# Altium schematic symbol library Schlib1.SchLib: 390 symbols (part 2 of 5)
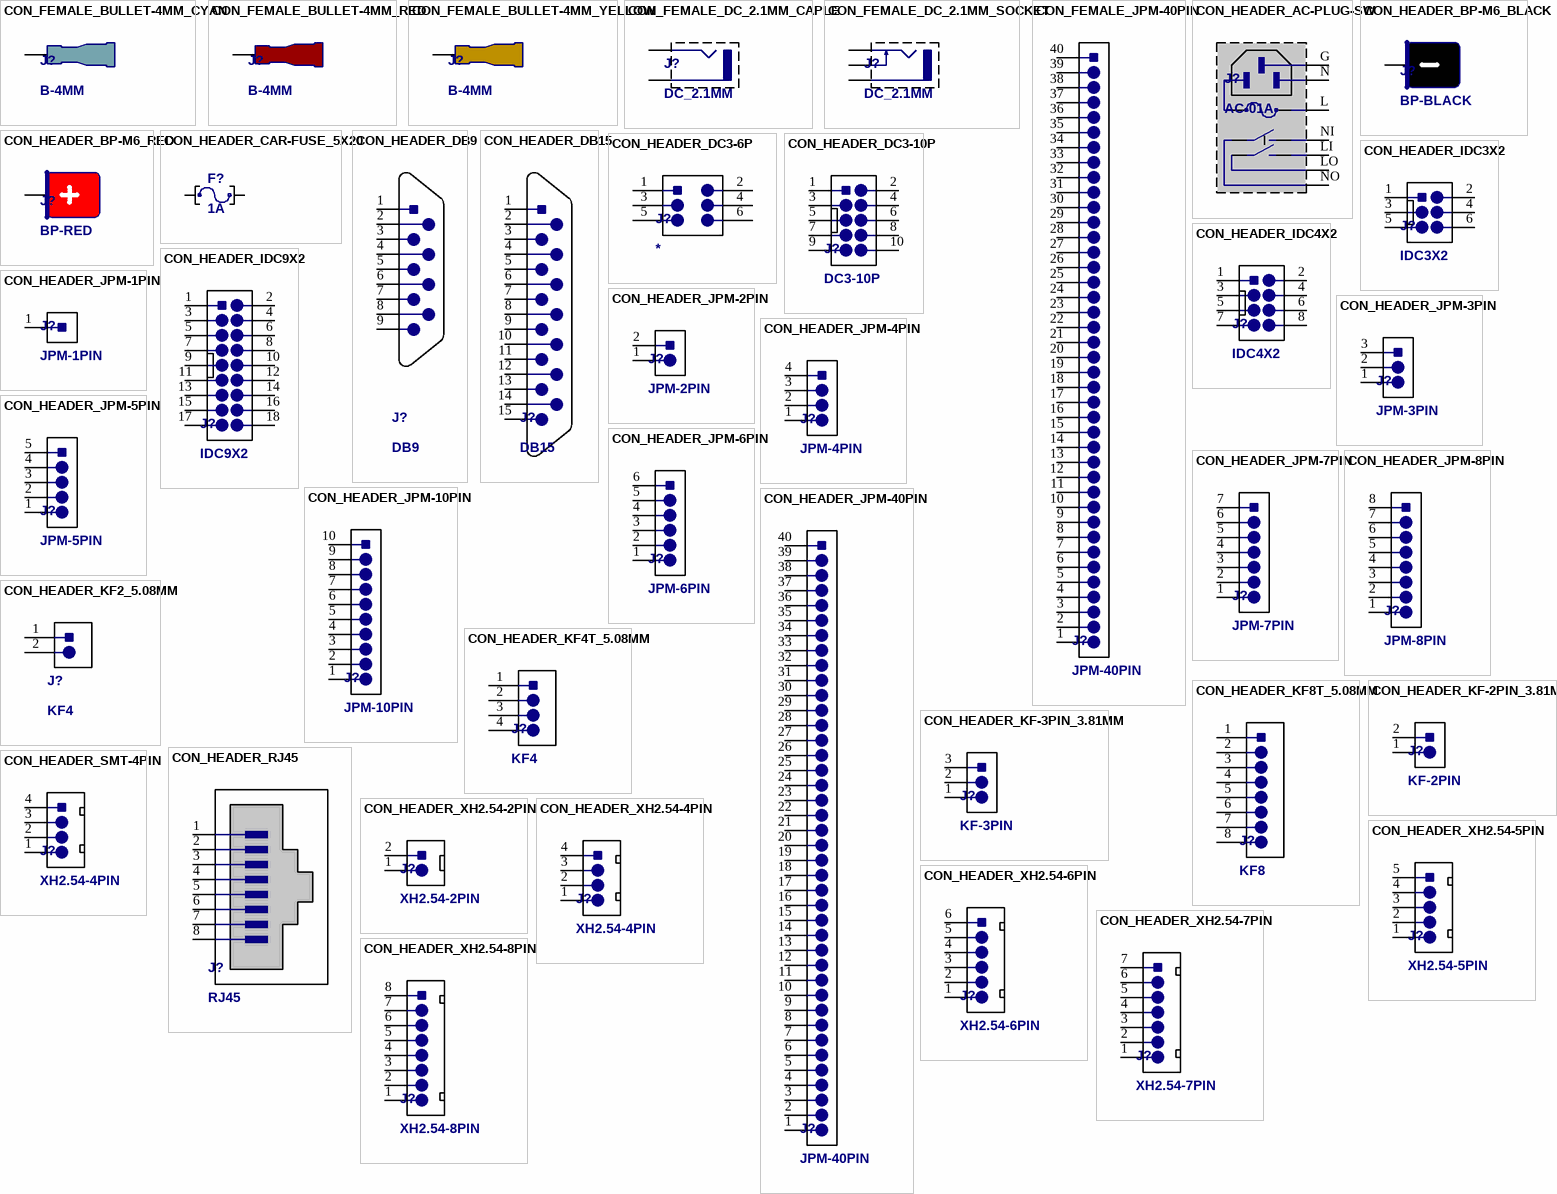
[diagram p11: symbols CON_FEMALE_BULLET-4MM_CYAN to CON_HEADER_XH2.54-8PIN]

## CON_HEADER_CAR-FUSE_5X20
designator F?, comment 1A
CAR-FUSE_5X20; Container: Connector_Fuse_Box; Label: Fuse; Package: TH; Stock: 11; Manufacturer: https://shopee.vn/(G%C3%B3i-20-c%C3%A1i)-%C4%90%E1%BA%BF-c%E1%BA%A7u-ch%C3%AC-5x20mm-(ch%C3%A2n-s%E1%BA%AFt)-l%E1%BA%AFp-PCB-i.135484275.9003542344; Temperature Range: -25 to +85 degC; Price: 0.018
footprint Fuse-Dip1
pins: 1, 2

## CON_HEADER_DB9
designator J?, comment DB9
DE-9 connector Male,  (COM PORT); Container: Bus_Wire_Box; Price: 0.35; Package: TH; Stock: 0; Label: DB9; Manufacturer: https://shopee.vn/%C4%91%C3%A2%CC%80u-com-rs232-9-ch%C3%A2n-%C4%91%E1%BA%A7u-%C4%91%C6%B0%CC%A3c-v%C3%A0-%C4%91%E1%BA%A7u-ca%CC%81i-kh%C3%B4ng-co%CC%81-d%C3%A2y-ke%CC%80m-i.59506575.11391940071; Temperature Range: -25 to +85 degC
pins: 1, 2, 3, 4, 5, 6, 7, 8, 9

## CON_HEADER_DB15
designator J?, comment DB15
High Density DB15 Male VGA Solder Connector; Container: Bus_Wire_Box; Price: 0.28; Package: TH; Stock: 18; Label: DB15; Manufacturer: https://shopee.vn/-2-C%C3%81I-(F29)-DB15-C%C3%A1i-Th%E1%BA%B3ng-(3-h%C3%A0ng-ch%C3%A2n)-c%E1%BB%95ng-VGA-(H%C3%A0n-D%C3%A2y)-i.29971197.4133186476?sp_atk=0d3fd8d2-aa46-4b16-8839-f1036c0a33bb&xptdk=0d3fd8d2-aa46-4b16-8839-f1036c0a33bb; Temperature Range: -25 to +85 degC; ComponentLink1Description: Datasheet; ComponentLink1URL: E:\NEW_DATA\ELECTRONIC_DOCUMENT\DATASHEET\DB15.jpg
pins: 1, 2, 3, 4, 5, 6, 7, 8, 9, 10, 11, 12, 13, 14, 15

## CON_HEADER_DC3-6P
designator J?
Male Box Header WR-BHD, THT, Vertical, pitch 2.54 mm, 6 pins; Container: Bus_Wire_Box; Label: DC3-6P; Price: 0.074; Package: TH; Stock: 0; Manufacturer: https://shopee.vn/Set-10-%C4%91%E1%BA%A7u-n%E1%BB%91i-th%E1%BA%B3ng-DC3-6P-8P-10P-14P-16P-20P-Pin-10PL-14PL-16PL-20PL-2.54mm20210822-i.81431289.21425369779?sp_atk=541d8f43-0182-45c4-8bdd-5b0f02eff494&xptdk=541d8f43-0182-45c4-8bdd-5b0f02eff494; Temperature Range: -25 to +85 degC; ComponentLink1Description: Datasheet; ComponentLink1URL: E:\NEW_DATA\ELECTRONIC_DOCUMENT\DATASHEET\DC3-10P.jpg
footprint IDC6
pins: 1, 2, 3, 4, 5, 6

## CON_HEADER_DC3-10P
designator J?, comment DC3-10P
Male Box Header WR-BHD, THT, Vertical, pitch 2.54 mm, 10 pins; Container: Bus_Wire_Box; Price: 0.07; Package: TH; Stock: 8; Label: DC3-10P; Manufacturer: https://shopee.vn/Set-10-%C4%90%E1%BA%A7u-N%E1%BB%91i-Th%E1%BA%B3ng-2.54Mm-Pitch-DC3-L%E1%BB%97-Xuy%C3%AAn-Qua-6-8-10-12-14-16-20-26-30-34-40-50-Pin-PCB-IDC-i.778834786.20557385821; Temperature Range: -25 to +85 degC; ComponentLink1Description: Datasheet; ComponentLink1URL: E:\NEW_DATA\ELECTRONIC_DOCUMENT\DATASHEET\DC3-10P.jpg
footprint IDC10
pins: 1, 2, 3, 4, 5, 6, 7, 8, 9, 10

## CON_HEADER_IDC3X2
designator J?, comment IDC3X2
Male Box Header WR-BHD, THT, Vertical, pitch 2.54 mm, 10 pins; Container: Bus_Wire_Box; Label: IDC; Price: 0.038; Package: TH; Stock: 0; Manufacturer: https://item.taobao.com/item.htm?spm=a1z10.3-c-s.w4002-22568747145.12.3ea73c70Ca7tQh&id=527402437478; Temperature Range: -25 to +85 degC; ComponentLink1Description: Datasheet; ComponentLink1URL: E:\NEW_DATA\ELECTRONIC_DOCUMENT\DATASHEET\DC3-10P.jpg
footprint IDC3X2
pins: 1, 2, 3, 4, 5, 6

## CON_HEADER_IDC4X2
designator J?, comment IDC4X2
Male Box Header WR-BHD, THT, Vertical, pitch 2.54 mm, 10 pins; Container: Bus_Wire_Box; Label: IDC; Price: 0.038; Package: TH; Stock: 0; Manufacturer: https://item.taobao.com/item.htm?spm=a1z10.3-c-s.w4002-22568747145.12.3ea73c70Ca7tQh&id=527402437478; Temperature Range: -25 to +85 degC; ComponentLink1Description: Datasheet; ComponentLink1URL: E:\NEW_DATA\ELECTRONIC_DOCUMENT\DATASHEET\DC3-10P.jpg
footprint IDC4X2
pins: 1, 2, 3, 4, 5, 6, 7, 8

## CON_HEADER_IDC9X2
designator J?, comment IDC9X2
Male Box Header WR-BHD, THT, Vertical, pitch 2.54 mm, 10 pins; Container: Bus_Wire_Box; Label: IDC; Price: 0.074; Package: TH; Stock: 0; Manufacturer: https://item.taobao.com/item.htm?spm=a1z10.3-c-s.w4002-22568747145.12.3ea73c70Ca7tQh&id=527402437478; Temperature Range: -25 to +85 degC; ComponentLink1Description: Datasheet; ComponentLink1URL: E:\NEW_DATA\ELECTRONIC_DOCUMENT\DATASHEET\DC3-10P.jpg
footprint IDC9X2
pins: 1, 2, 3, 4, 5, 6, 7, 8, 9, 10, 11, 12, 13, 14, 15, 16, 17, 18

## CON_HEADER_JPM-1PIN
designator J?, comment JPM-1PIN
Straight Pin Header, / 2.54mm, Single row.; Container: Bus_Wire_Box; Label: JPM-40P; Price: 0.002; Package: TH; Stock: 0; Manufacturer: https://shopee.vn/H%C3%A0ng-R%C3%A0o-%C4%90%E1%BB%B1c-%C4%90%C6%A1n-Ch%C3%A2n-Th%E1%BA%B3ng-40-Ch%C3%A2n-(Header-2.54-40Pin)-i.106323333.2772909361?sp_atk=56e76b2a-d9b4-4869-a18c-e19f4912a2ea&xptdk=56e76b2a-d9b4-4869-a18c-e19f4912a2ea; Temperature Range: -25 to +85 degC; ComponentLink1Description: Datasheet; ComponentLink1URL: E:\NEW_DATA\ELECTRONIC_DOCUMENT\DATASHEET\35470602.pdf
footprint JP1-D1T (1pins, 1 row, straight, gold plating)
pins: 1

## CON_HEADER_JPM-2PIN
designator J?, comment JPM-2PIN
Straight Pin Header, / 2.54mm, Single row.; Container: Bus_Wire_Box; Label: JPM-40P; Price: 0.004; Package: TH; Stock: 0; Manufacturer: https://shopee.vn/H%C3%A0ng-R%C3%A0o-%C4%90%E1%BB%B1c-%C4%90%C6%A1n-Ch%C3%A2n-Th%E1%BA%B3ng-40-Ch%C3%A2n-(Header-2.54-40Pin)-i.106323333.2772909361?sp_atk=56e76b2a-d9b4-4869-a18c-e19f4912a2ea&xptdk=56e76b2a-d9b4-4869-a18c-e19f4912a2ea; Temperature Range: -25 to +85 degC; ComponentLink1Description: Datasheet; ComponentLink1URL: E:\NEW_DATA\ELECTRONIC_DOCUMENT\DATASHEET\35470602.pdf
footprint JP2-D1T (2 pins, 1 row, straight, gold plating)
pins: 1, 2

## CON_HEADER_JPM-3PIN
designator J?, comment JPM-3PIN
Straight Pin Header, / 2.54mm, Single row.; Container: Bus_Wire_Box; Label: JPM-40P; Price: 0.006; Package: TH; Stock: 0; Manufacturer: https://shopee.vn/H%C3%A0ng-R%C3%A0o-%C4%90%E1%BB%B1c-%C4%90%C6%A1n-Ch%C3%A2n-Th%E1%BA%B3ng-40-Ch%C3%A2n-(Header-2.54-40Pin)-i.106323333.2772909361?sp_atk=56e76b2a-d9b4-4869-a18c-e19f4912a2ea&xptdk=56e76b2a-d9b4-4869-a18c-e19f4912a2ea; Temperature Range: -25 to +85 degC; ComponentLink1Description: Datasheet; ComponentLink1URL: E:\NEW_DATA\ELECTRONIC_DOCUMENT\DATASHEET\35470602.pdf
footprint JP3-D1T (3 pins, 1 row, straight, gold plating)
footprint JP3-CLOSED
pins: 1, 2, 3

## CON_HEADER_JPM-4PIN
designator J?, comment JPM-4PIN
Straight Pin Header, / 2.54mm, Single row.; Container: Bus_Wire_Box; Label: JPM-40P; Price: 0.007; Package: TH; Stock: 0; Manufacturer: https://shopee.vn/H%C3%A0ng-R%C3%A0o-%C4%90%E1%BB%B1c-%C4%90%C6%A1n-Ch%C3%A2n-Th%E1%BA%B3ng-40-Ch%C3%A2n-(Header-2.54-40Pin)-i.106323333.2772909361?sp_atk=56e76b2a-d9b4-4869-a18c-e19f4912a2ea&xptdk=56e76b2a-d9b4-4869-a18c-e19f4912a2ea; Temperature Range: -25 to +85 degC; ComponentLink1Description: Datasheet; ComponentLink1URL: E:\NEW_DATA\ELECTRONIC_DOCUMENT\DATASHEET\35470602.pdf
footprint JP4-D1T (4 pins, 1 row, straight, gold plating)
pins: 1, 2, 3, 4

## CON_HEADER_JPM-5PIN
designator J?, comment JPM-5PIN
Straight Pin Header, / 2.54mm, Single row.; Container: Bus_Wire_Box; Label: JPM-40P; Price: 0.009; Package: TH; Stock: 0; Manufacturer: https://shopee.vn/H%C3%A0ng-R%C3%A0o-%C4%90%E1%BB%B1c-%C4%90%C6%A1n-Ch%C3%A2n-Th%E1%BA%B3ng-40-Ch%C3%A2n-(Header-2.54-40Pin)-i.106323333.2772909361?sp_atk=56e76b2a-d9b4-4869-a18c-e19f4912a2ea&xptdk=56e76b2a-d9b4-4869-a18c-e19f4912a2ea; Temperature Range: -25 to +85 degC; ComponentLink1Description: Datasheet; ComponentLink1URL: E:\NEW_DATA\ELECTRONIC_DOCUMENT\DATASHEET\35470602.pdf
footprint JP5-D1T (5 pins, 1 row, straight, gold plating)
pins: 1, 2, 3, 4, 5

## CON_HEADER_JPM-6PIN
designator J?, comment JPM-6PIN
Straight Pin Header, / 2.54mm, Single row.; Container: Bus_Wire_Box; Label: JPM-40P; Price: 0.011; Package: TH; Stock: 0; Manufacturer: https://shopee.vn/H%C3%A0ng-R%C3%A0o-%C4%90%E1%BB%B1c-%C4%90%C6%A1n-Ch%C3%A2n-Th%E1%BA%B3ng-40-Ch%C3%A2n-(Header-2.54-40Pin)-i.106323333.2772909361?sp_atk=56e76b2a-d9b4-4869-a18c-e19f4912a2ea&xptdk=56e76b2a-d9b4-4869-a18c-e19f4912a2ea; Temperature Range: -25 to +85 degC; ComponentLink1Description: Datasheet; ComponentLink1URL: E:\NEW_DATA\ELECTRONIC_DOCUMENT\DATASHEET\35470602.pdf
footprint JP6-D1T (6 pins, 1 row, straight, gold plating)
pins: 1, 2, 3, 4, 5, 6

## CON_HEADER_JPM-7PIN
designator J?, comment JPM-7PIN
Straight Pin Header, / 2.54mm, Single row.; Container: Bus_Wire_Box; Label: JPM-40P; Price: 0.013; Package: TH; Stock: 0; Manufacturer: https://shopee.vn/H%C3%A0ng-R%C3%A0o-%C4%90%E1%BB%B1c-%C4%90%C6%A1n-Ch%C3%A2n-Th%E1%BA%B3ng-40-Ch%C3%A2n-(Header-2.54-40Pin)-i.106323333.2772909361?sp_atk=56e76b2a-d9b4-4869-a18c-e19f4912a2ea&xptdk=56e76b2a-d9b4-4869-a18c-e19f4912a2ea; Temperature Range: -25 to +85 degC; ComponentLink1Description: Datasheet; ComponentLink1URL: E:\NEW_DATA\ELECTRONIC_DOCUMENT\DATASHEET\35470602.pdf
footprint JP7-D1T (7 pins, 1 row, straight, gold plating)
pins: 1, 2, 3, 4, 5, 6, 7

## CON_HEADER_JPM-8PIN
designator J?, comment JPM-8PIN
Straight Pin Header, / 2.54mm, Single row.; Container: Bus_Wire_Box; Label: JPM-40P; Price: 0.014; Package: TH; Stock: 0; Manufacturer: https://shopee.vn/H%C3%A0ng-R%C3%A0o-%C4%90%E1%BB%B1c-%C4%90%C6%A1n-Ch%C3%A2n-Th%E1%BA%B3ng-40-Ch%C3%A2n-(Header-2.54-40Pin)-i.106323333.2772909361?sp_atk=56e76b2a-d9b4-4869-a18c-e19f4912a2ea&xptdk=56e76b2a-d9b4-4869-a18c-e19f4912a2ea; Temperature Range: -25 to +85 degC; ComponentLink1Description: Datasheet; ComponentLink1URL: E:\NEW_DATA\ELECTRONIC_DOCUMENT\DATASHEET\35470602.pdf
footprint JP8-D1T (8 pins, 1 row, straight, gold plating)
pins: 1, 2, 3, 4, 5, 6, 7, 8

## CON_HEADER_JPM-10PIN
designator J?, comment JPM-10PIN
Straight Pin Header, / 2.54mm, Single row.; Container: Bus_Wire_Box; Label: JPM-40P; Price: 0.018; Package: TH; Stock: 0; Manufacturer: https://shopee.vn/H%C3%A0ng-R%C3%A0o-%C4%90%E1%BB%B1c-%C4%90%C6%A1n-Ch%C3%A2n-Th%E1%BA%B3ng-40-Ch%C3%A2n-(Header-2.54-40Pin)-i.106323333.2772909361?sp_atk=56e76b2a-d9b4-4869-a18c-e19f4912a2ea&xptdk=56e76b2a-d9b4-4869-a18c-e19f4912a2ea; Temperature Range: -25 to +85 degC; ComponentLink1Description: Datasheet; ComponentLink1URL: E:\NEW_DATA\ELECTRONIC_DOCUMENT\DATASHEET\35470602.pdf
footprint JP10-D1T (10 pins, 1 row, straight, gold plating)
pins: 1, 2, 3, 4, 5, 6, 7, 8, 9, 10

## CON_HEADER_JPM-40PIN
designator J?, comment JPM-40PIN
Straight Pin Header, / 2.54mm, Single row.; Container: Bus_Wire_Box; Price: 0.07; Package: TH; Stock: 6; Label: JPM-40P; Manufacturer: https://shopee.vn/H%C3%A0ng-R%C3%A0o-%C4%90%E1%BB%B1c-%C4%90%C6%A1n-Ch%C3%A2n-Th%E1%BA%B3ng-40-Ch%C3%A2n-(Header-2.54-40Pin)-i.106323333.2772909361?sp_atk=56e76b2a-d9b4-4869-a18c-e19f4912a2ea&xptdk=56e76b2a-d9b4-4869-a18c-e19f4912a2ea; Temperature Range: -25 to +85 degC; ComponentLink1Description: Datasheet; ComponentLink1URL: E:\NEW_DATA\ELECTRONIC_DOCUMENT\DATASHEET\35470602.pdf
footprint JP40-D1T (40 pins, 1 row, straight, gold plating)
pins: 1, 2, 3, 4, 5, 6, 7, 8, 9, 10, 11, 12, 13, 14, 15, 16, 17, 18, 19, 20, 21, 22, 23, 24, 25, 26, 27, 28, 29, 30, 31, 32, 33, 34, 35, 36, 37, 38, 39, 40

## CON_HEADER_KF2_5.08MM
designator J?, comment KF4
Terminal 4P-RA-5.08MM; Container: Connector_Fuse_Box; Label: KF2; Package: TH; Stock: 1; Manufacturer: https://shopee.vn/-HAAPEURY-50Pcs-Set-Universal-2-Pin-5mm-Pitch-Green-PCB-Screw-Terminal-Block-Connector-i.156068414.2657161133; Temperature Range: -25 to +85 degC; Price: 0.048
footprint KF2/5.08
pins: 1, 2

## CON_HEADER_KF4T_5.08MM
designator J?, comment KF4
Terminal 4P-RA-5.08MM; Container: Connector_Fuse_Box; Package: TH; Stock: 0; Label: KF4; Temperature Range: -25 to +85 degC
footprint KF4_5.08
pins: 1, 2, 3, 4

## CON_HEADER_KF8T_5.08MM
designator J?, comment KF8
Terminal 8P-RA-5.08MM; Container: Connector_Fuse_Box; Package: TH; Stock: 0; Label: KF8; Temperature Range: -25 to +85 degC
footprint KF8_5.08
pins: 1, 2, 3, 4, 5, 6, 7, 8

## CON_HEADER_KF-2PIN_3.81MM
designator J?, comment KF-2PIN
300V 8A 2 Bend -40℃~+105℃ 1 3.81mm 1x2P Green Board Edge/Receptacle-Close Push-Pull,P=3.81mm Pluggable System Terminal Block ROHS; Container: Bus_Wire_Box; Label: KF-2PIN-3.81MM; Price: 0.12; Package: TH; Stock: 0; Manufacturer: https://item.taobao.com/item.htm?spm=a1z10.3-c-s.w4002-23047171155.12.75fe5989s6gvKv&id=607234682664; Temperature Range: -40 to +105 degC
footprint KF2EDGR-3.81-2P
pins: 1, 2

## CON_HEADER_KF-3PIN_3.81MM
designator J?, comment KF-3PIN
300V 8A 3 Bend -40℃~+105℃ 1 3.81mm 1x3P Green Board Edge/Receptacle-Close Push-Pull,P=3.81mm Pluggable System Terminal Block ROHS; Container: Bus_Wire_Box; Label: KF-3PIN-3.81MM; Price: 0.18; Package: TH; Stock: 0; Manufacturer: https://item.taobao.com/item.htm?spm=a1z10.3-c-s.w4002-23047171155.12.75fe5989s6gvKv&id=607234682664; Temperature Range: -40 to +105 degC
footprint KF2EDGR-3.81-3P
pins: 1, 2, 3

## CON_HEADER_RJ45
designator J?, comment RJ45
RJ45 PORT, (LAN PORT); Container: Bus_Wire_Box; Label: DB9; Price: 0.35; Package: TH; Stock: 0; Manufacturer: https://shopee.vn/%C4%91%C3%A2%CC%80u-com-rs232-9-ch%C3%A2n-%C4%91%E1%BA%A7u-%C4%91%C6%B0%CC%A3c-v%C3%A0-%C4%91%E1%BA%A7u-ca%CC%81i-kh%C3%B4ng-co%CC%81-d%C3%A2y-ke%CC%80m-i.59506575.11391940071; Temperature Range: -25 to +85 degC; ComponentLink1Description: Datasheet; ComponentLink1URL: E:\NEW_DATA\ELECTRONIC_DOCUMENT\DATASHEET\2105241836_Shenzhen-Kinghelm-Elec-KH-RJ45-56-8P8C-D_C2828082.pdf
footprint RJ45-56-8P8C
pins: 1, 2, 3, 4, 5, 6, 7, 8

## CON_HEADER_SMT-4PIN
designator J?, comment XH2.54-4PIN
4P-XH2.54MM SMT connector; Price: 0.11; Package: TH; Temperature Range: -25 to +85 degC
footprint 4P-XH2.54MM-SMT
pins: 1, 2, 3, 4

## CON_HEADER_XH2.54-2PIN
designator J?, comment XH2.54-2PIN
2.5mm pitch/Disconnectable Crimp style connectors.; Container: Bus_Wire_Box; Label: XH2.54; Price: 0.009; Package: TH; Stock: 14; Manufacturer: https://shopee.vn/%C4%90%E1%BA%A7u-n%E1%BB%91i-XH2.54-%C4%90%E1%BB%B1c-C%C3%A1i-C%C3%A1c-Lo%E1%BA%A1i-Header-XH2.54-lo%E1%BA%A1i-%C4%91%E1%BB%B1c-th%E1%BA%B3ng-i.151571719.3589152280?sp_atk=5406bfb8-bf62-463e-a06d-2acb89645f90&xptdk=5406bfb8-bf62-463e-a06d-2acb89645f90; Temperature Range: -25 to +85 degC; ComponentLink1Description: Datasheet; ComponentLink1URL: E:\NEW_DATA\ELECTRONIC_DOCUMENT\DATASHEET\5448.pdf
footprint Header 2P (CON2)
pins: 1, 2

## CON_HEADER_XH2.54-4PIN
designator J?, comment XH2.54-4PIN
2.5mm pitch/Disconnectable Crimp style connectors.; Container: Bus_Wire_Box; Label: XH2.54; Price: 0.02; Package: TH; Stock: 13; Manufacturer: https://shopee.vn/%C4%90%E1%BA%A7u-n%E1%BB%91i-XH2.54-%C4%90%E1%BB%B1c-C%C3%A1i-C%C3%A1c-Lo%E1%BA%A1i-Header-XH2.54-lo%E1%BA%A1i-%C4%91%E1%BB%B1c-th%E1%BA%B3ng-i.151571719.3589152280?sp_atk=5406bfb8-bf62-463e-a06d-2acb89645f90&xptdk=5406bfb8-bf62-463e-a06d-2acb89645f90; Temperature Range: -25 to +85 degC; ComponentLink1Description: Datasheet; ComponentLink1URL: E:\NEW_DATA\ELECTRONIC_DOCUMENT\DATASHEET\5448.pdf
footprint Header 4P (CON4)
pins: 1, 2, 3, 4

## CON_HEADER_XH2.54-5PIN
designator J?, comment XH2.54-5PIN
2.5mm pitch/Disconnectable Crimp style connectors.; Container: Bus_Wire_Box; Label: XH2.54; Price: 0.022; Package: TH; Stock: 5; Manufacturer: https://shopee.vn/%C4%90%E1%BA%A7u-n%E1%BB%91i-XH2.54-%C4%90%E1%BB%B1c-C%C3%A1i-C%C3%A1c-Lo%E1%BA%A1i-Header-XH2.54-lo%E1%BA%A1i-%C4%91%E1%BB%B1c-th%E1%BA%B3ng-i.151571719.3589152280?sp_atk=5406bfb8-bf62-463e-a06d-2acb89645f90&xptdk=5406bfb8-bf62-463e-a06d-2acb89645f90; Temperature Range: -25 to +85 degC; ComponentLink1Description: Datasheet; ComponentLink1URL: E:\NEW_DATA\ELECTRONIC_DOCUMENT\DATASHEET\5448.pdf
footprint Header 5P (CON5)
pins: 1, 2, 3, 4, 5

## CON_HEADER_XH2.54-6PIN
designator J?, comment XH2.54-6PIN
2.5mm pitch/Disconnectable Crimp style connectors.; Container: Bus_Wire_Box; Label: XH2.54; Price: 0.022; Package: TH; Stock: 1; Manufacturer: https://shopee.vn/%C4%90%E1%BA%A7u-n%E1%BB%91i-XH2.54-%C4%90%E1%BB%B1c-C%C3%A1i-C%C3%A1c-Lo%E1%BA%A1i-Header-XH2.54-lo%E1%BA%A1i-%C4%91%E1%BB%B1c-th%E1%BA%B3ng-i.151571719.3589152280?sp_atk=5406bfb8-bf62-463e-a06d-2acb89645f90&xptdk=5406bfb8-bf62-463e-a06d-2acb89645f90; Temperature Range: -25 to +85 degC; ComponentLink1Description: Datasheet; ComponentLink1URL: E:\NEW_DATA\ELECTRONIC_DOCUMENT\DATASHEET\5448.pdf
footprint Header 6P (CON6)
pins: 1, 2, 3, 4, 5, 6

## CON_HEADER_XH2.54-7PIN
designator J?, comment XH2.54-7PIN
2.5mm pitch/Disconnectable Crimp style connectors.; Container: Bus_Wire_Box; Label: XH2.54; Price: 0.016; Package: TH; Stock: 14; Manufacturer: https://shopee.vn/%C4%90%E1%BA%A7u-n%E1%BB%91i-XH2.54-%C4%90%E1%BB%B1c-C%C3%A1i-C%C3%A1c-Lo%E1%BA%A1i-Header-XH2.54-lo%E1%BA%A1i-%C4%91%E1%BB%B1c-th%E1%BA%B3ng-i.151571719.3589152280?sp_atk=5406bfb8-bf62-463e-a06d-2acb89645f90&xptdk=5406bfb8-bf62-463e-a06d-2acb89645f90; Temperature Range: -25 to +85 degC; ComponentLink1Description: Datasheet; ComponentLink1URL: E:\NEW_DATA\ELECTRONIC_DOCUMENT\DATASHEET\5448.pdf
footprint Header 7P (CON7)
pins: 1, 2, 3, 4, 5, 6, 7

## CON_HEADER_XH2.54-8PIN
designator J?, comment XH2.54-8PIN
2.5mm pitch/Disconnectable Crimp style connectors.; Container: Bus_Wire_Box; Label: XH2.54; Price: 0.018; Package: TH; Stock: 1; Manufacturer: https://shopee.vn/%C4%90%E1%BA%A7u-n%E1%BB%91i-XH2.54-%C4%90%E1%BB%B1c-C%C3%A1i-C%C3%A1c-Lo%E1%BA%A1i-Header-XH2.54-lo%E1%BA%A1i-%C4%91%E1%BB%B1c-th%E1%BA%B3ng-i.151571719.3589152280?sp_atk=5406bfb8-bf62-463e-a06d-2acb89645f90&xptdk=5406bfb8-bf62-463e-a06d-2acb89645f90; Temperature Range: -25 to +85 degC; ComponentLink1Description: Datasheet; ComponentLink1URL: E:\NEW_DATA\ELECTRONIC_DOCUMENT\DATASHEET\5448.pdf
footprint Header 8P (CON8)
pins: 1, 2, 3, 4, 5, 6, 7, 8

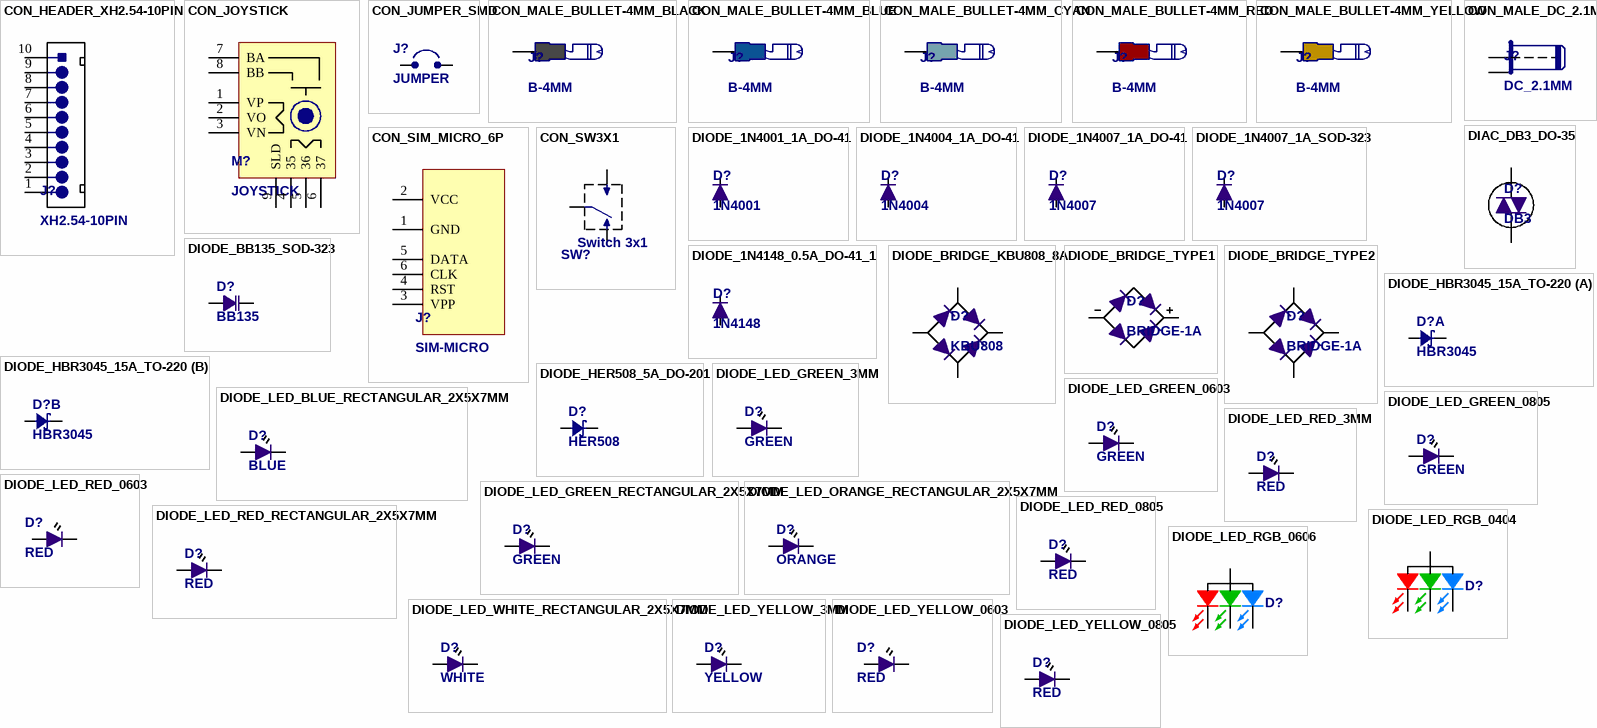
[diagram p3: symbols CON_HEADER_XH2.54-10PIN to DIODE_LED_YELLOW_0805]

## CON_HEADER_XH2.54-10PIN
designator J?, comment XH2.54-10PIN
2.5mm pitch/Disconnectable Crimp style connectors.; Container: Bus_Wire_Box; Label: XH2.54; Price: 0.022; Package: TH; Stock: 1; Manufacturer: https://shopee.vn/%C4%90%E1%BA%A7u-n%E1%BB%91i-XH2.54-%C4%90%E1%BB%B1c-C%C3%A1i-C%C3%A1c-Lo%E1%BA%A1i-Header-XH2.54-lo%E1%BA%A1i-%C4%91%E1%BB%B1c-th%E1%BA%B3ng-i.151571719.3589152280?sp_atk=5406bfb8-bf62-463e-a06d-2acb89645f90&xptdk=5406bfb8-bf62-463e-a06d-2acb89645f90; Temperature Range: -25 to +85 degC; ComponentLink1Description: Datasheet; ComponentLink1URL: E:\NEW_DATA\ELECTRONIC_DOCUMENT\DATASHEET\5448.pdf
footprint Header 10P (CON10)
pins: 1, 2, 3, 4, 5, 6, 7, 8, 9, 10

## CON_JOYSTICK
designator M?, comment JOYSTICK
Container: Connector_Fuse_Box; Package: TH; Stock: 0; Label: JOYSTICK; Manufacturer: https://shopee.vn/-ZVPT-2Pcs-3D-Analog-Stick-Joystick-Axis-Sensor-Module-for-PS4-Xbox-One-Controller-DSF-i.348155590.12587377873?sp_atk=290e37ae-6e40-4fdc-98cf-adc1b24ba0d2&xptdk=290e37ae-6e40-4fdc-98cf-adc1b24ba0d2; Temperature Range: -25 to +85 degC; Price: 0.7
footprint JOYSTICK
pins: 1 VP, 2 VO, 3 VN, 4 35, 5 36, 6 37, 7 BA, 8 BB, 9 SLD

## CON_JUMPER_SMD
designator J?, comment JUMPER
SMD-JUMPER; Price: 0; Package: SMD; Stock: 999; Temperature Range: -25 to +85 degC
pins: 1, 2

## CON_MALE_BULLET-4MM_BLACK
designator J?, comment B-4MM
Female Bullet - Vinyl Insulated, 10A; Container: Connector_Fuse_Box; Label: BULLET-4MM-MALE; Price: 0.018; Package: TH; Stock: 4; Manufacturer: https://shopee.vn/B%E1%BB%99-50-gi%E1%BA%AFc-c%E1%BA%AFm-c%C3%A1ch-%C4%91i%E1%BB%87n-g%E1%BB%93m-25-%C4%91%E1%BA%A7u-n%E1%BB%91i-25-c%E1%BB%95ng-n%E1%BB%91i-cho-d%C3%A2y-%C4%91i%E1%BB%87n-22~16-AWG-i.101758806.1652840082; Temperature Range: -25 to +85 degC; ComponentLink1Description: Datasheet; ComponentLink1URL: E:\NEW_DATA\ELECTRONIC_DOCUMENT\DATASHEET\11.pdf
pins: C

## CON_MALE_BULLET-4MM_BLUE
designator J?, comment B-4MM
Female Bullet - Vinyl Insulated, 10A; Container: Connector_Fuse_Box; Label: BULLET-4MM-MALE; Price: 0.018; Package: TH; Stock: 7; Manufacturer: https://shopee.vn/B%E1%BB%99-50-gi%E1%BA%AFc-c%E1%BA%AFm-c%C3%A1ch-%C4%91i%E1%BB%87n-g%E1%BB%93m-25-%C4%91%E1%BA%A7u-n%E1%BB%91i-25-c%E1%BB%95ng-n%E1%BB%91i-cho-d%C3%A2y-%C4%91i%E1%BB%87n-22~16-AWG-i.101758806.1652840082; Temperature Range: -25 to +85 degC; ComponentLink1Description: Datasheet; ComponentLink1URL: E:\NEW_DATA\ELECTRONIC_DOCUMENT\DATASHEET\11.pdf
pins: C

## CON_MALE_BULLET-4MM_CYAN
designator J?, comment B-4MM
Female Bullet - Vinyl Insulated, 10A; Container: Connector_Fuse_Box; Label: BULLET-4MM-MALE; Price: 0.018; Package: TH; Stock: 4; Manufacturer: https://shopee.vn/B%E1%BB%99-50-gi%E1%BA%AFc-c%E1%BA%AFm-c%C3%A1ch-%C4%91i%E1%BB%87n-g%E1%BB%93m-25-%C4%91%E1%BA%A7u-n%E1%BB%91i-25-c%E1%BB%95ng-n%E1%BB%91i-cho-d%C3%A2y-%C4%91i%E1%BB%87n-22~16-AWG-i.101758806.1652840082; Temperature Range: -25 to +85 degC; ComponentLink1Description: Datasheet; ComponentLink1URL: E:\NEW_DATA\ELECTRONIC_DOCUMENT\DATASHEET\11.pdf
pins: C

## CON_MALE_BULLET-4MM_RED
designator J?, comment B-4MM
Female Bullet - Vinyl Insulated, 10A; Container: Connector_Fuse_Box; Label: BULLET-4MM-MALE; Price: 0.018; Package: TH; Stock: 4; Manufacturer: https://shopee.vn/B%E1%BB%99-50-gi%E1%BA%AFc-c%E1%BA%AFm-c%C3%A1ch-%C4%91i%E1%BB%87n-g%E1%BB%93m-25-%C4%91%E1%BA%A7u-n%E1%BB%91i-25-c%E1%BB%95ng-n%E1%BB%91i-cho-d%C3%A2y-%C4%91i%E1%BB%87n-22~16-AWG-i.101758806.1652840082; Temperature Range: -25 to +85 degC; ComponentLink1Description: Datasheet; ComponentLink1URL: E:\NEW_DATA\ELECTRONIC_DOCUMENT\DATASHEET\11.pdf
pins: C

## CON_MALE_BULLET-4MM_YELLOW
designator J?, comment B-4MM
Female Bullet - Vinyl Insulated, 10A; Container: Connector_Fuse_Box; Label: BULLET-4MM-MALE; Price: 0.018; Package: TH; Stock: 8; Manufacturer: https://shopee.vn/B%E1%BB%99-50-gi%E1%BA%AFc-c%E1%BA%AFm-c%C3%A1ch-%C4%91i%E1%BB%87n-g%E1%BB%93m-25-%C4%91%E1%BA%A7u-n%E1%BB%91i-25-c%E1%BB%95ng-n%E1%BB%91i-cho-d%C3%A2y-%C4%91i%E1%BB%87n-22~16-AWG-i.101758806.1652840082; Temperature Range: -25 to +85 degC; ComponentLink1Description: Datasheet; ComponentLink1URL: E:\NEW_DATA\ELECTRONIC_DOCUMENT\DATASHEET\11.pdf
pins: C

## CON_MALE_DC_2.1MM
designator J?, comment DC_2.1MM
Male DC 2.1MM Socket, Pin for DC 005 2.1 Connector.; Container: Connector_Fuse_Box; Label: DC_MALE_2.1MM; Price: 0.33; Package: TH; Stock: 1; Manufacturer: https://shopee.vn/-3-C%C3%81I-(G27)-Jack-DC-h%C3%A0n-d%C3%A2y-Chu%C3%B4i-Ng%E1%BA%AFn-5.5x2.1mm-i.29971197.5459237803?sp_atk=49692e42-dd59-4f0f-8792-1a179b4d464d&xptdk=49692e42-dd59-4f0f-8792-1a179b4d464d; Temperature Range: -25 to +85 degC; ComponentLink1Description: Datasheet; ComponentLink1URL: E:\NEW_DATA\ELECTRONIC_DOCUMENT\DATASHEET\tact-switch.pdf
pins: N, P

## CON_SIM_MICRO_6P
designator J?, comment SIM-MICRO
6P MICRO SIM - PUSH; Container: Connector_Fuse_Box; Label: SIM-MICRO-6P; Temperature Range: -40 to +125 degC; Price: 0.045; Package: SMD; Stock: 10; Manufacturer: https://item.taobao.com/item.htm?spm=a1z10.3-c-s.w4002-24706531953.15.61a66a4boPSCqs&id=546629940985; ComponentLink1Description: Datasheet; ComponentLink1URL: E:\NEW_DATA\ELECTRONIC_DOCUMENT\DATASHEET\MICRO_SIM.png
footprint SIM_MICRO_6P
pins: 1 GND (power), 2 VCC (power), 3 VPP, 4 RST, 5 DATA, 6 CLK

## CON_SW3X1
designator SW?, comment Switch 3x1
Price: 0; Package: TH; Stock: 0
footprint SW102T (Switch 102 On Board To)
pins: 1, 2, 3

## DIAC_DB3_DO-35
designator D?, comment DB3
Triggering device for Triac or SCR, Vbo 32V; Container: Diodes_Box; Price: 0.01; Stock: 26; Label: DB3; Manufacturer: https://shopee.vn/Set-270-%C4%91i-%E1%BB%91t-%E1%BB%95n-%C3%A1p-(2V4-33V)-1-2W-chuy%C3%AAn-d%E1%BB%A5ng-i.101758806.1635771682; ComponentLink1Description: Datasheet; ComponentLink1URL: E:\NEW_DATA\ELECTRONIC_DOCUMENT\DATASHEET\bzx55c.pdf; Package: TH; Temperature Range: -40 to +125 degC
footprint DO-35 (Diode, Axial; Body 3.8 x 1.9 mm (LxDia. max), Lead Dia. 0.53 mm (max))
pins: 1 T1, 2 T2

## DIODE_1N4001_1A_DO-41
designator D?, comment 1N4001
General Purpose Plastic Rectifier 1A - Vr 50V; Container: Diodes_Box; ComponentLink1Description: Datasheet; ComponentLink1URL: E:\NEW_DATA\ELECTRONIC_DOCUMENT\DATASHEET\1N4001 (2).pdf; Price: 0.01; Package: TH; Temperature Range: -50 to +150 degC; Stock: 22; Label: 1N4001; Manufacturer: https://shopee.vn/100-%C4%90i-%E1%BB%91t-1N4007-1N4001-1N4148-1N4004-UF4007-DB3-i.101758806.1638644919
footprint DIO-SMD-106
footprint DIO-SMD-123
footprint DIO-1AN (Diode 1A, W 100mil, L 150mil)
footprint DIO-1A-SMALL (Diode 1A, W 100mil, L 350mil)
simulation model 1N4001 (Model Description)
pins: 1, 2

## DIODE_1N4004_1A_DO-41
designator D?, comment 1N4004
General Purpose Plastic Rectifier 1A - Vr 400V; Container: Diodes_Box; ComponentLink1Description: Datasheet; ComponentLink1URL: E:\NEW_DATA\ELECTRONIC_DOCUMENT\DATASHEET\1N4001 (2).pdf; Price: 0.01; Package: TH; Temperature Range: -50 to +150 degC; Stock: 21; Label: 1N4004
footprint DIO-SMD-106
footprint DIO-SMD-123
footprint DIO-1AN (Diode 1A, W 100mil, L 150mil)
footprint DIO-1A-SMALL (Diode 1A, W 100mil, L 350mil)
simulation model 1N4004 (Model Generated by MODPEX)
pins: 1, 2

## DIODE_1N4007_1A_DO-41
designator D?, comment 1N4007
General Purpose Plastic Rectifier 1A - Vr 1000V; Container: Diodes_Box; ComponentLink1Description: Datasheet; ComponentLink1URL: E:\NEW_DATA\ELECTRONIC_DOCUMENT\DATASHEET\1N4001 (2).pdf; Price: 0.01; Package: TH; Temperature Range: -50 to +150 degC; Stock: 144; Label: 1N4007; Manufacturer: https://shopee.vn/100-%C4%90i-%E1%BB%91t-1N4007-1N4001-1N4148-1N4004-UF4007-DB3-i.101758806.1638644919
footprint DIO-SMD-106
footprint DIO-SMD-123
footprint DIO-1AN (Diode 1A, W 100mil, L 150mil)
footprint DIO-1A-SMALL (Diode 1A, W 100mil, L 350mil)
simulation model 1N4007 (Model Description)
pins: 1, 2

## DIODE_1N4007_1A_SOD-323
designator D?, comment 1N4007
1A Rectifier Diodes - Vr 1000V; Container: Diodes_Box; Label: 1N4007 T7; ComponentLink1Description: Datasheet; ComponentLink1URL: E:\NEW_DATA\ELECTRONIC_DOCUMENT\DATASHEET\1N4007-SMD.pdf; Price: 0.006; Package: SMD; Temperature Range: -65 to +175 degC; Stock: 184; Manufacturer: https://shopee.vn/Set-100-Mi%E1%BA%BFng-D%C3%A1n-%C4%90i%E1%BB%91t-SMD-0805-SOD-123-1N5819-1N4007-1N4148-SOD123-SOD-323-1206-1N4148WS-1N5819WS-B5819WS-SOD323-i.778834786.19705430997?sp_atk=d684d704-d874-4419-9c16-214feca81d22&xptdk=d684d704-d874-4419-9c16-214feca81d22
footprint DIO-SMD-106
footprint DIO-SMD-123
simulation model 1N4007 (Model Description)
pins: 1, 2

## DIODE_1N4148_0.5A_DO-41_1
designator D?, comment 1N4148
Small Signal Fast Switching Diodes, Vr 100V; Container: Diodes_Box; ComponentLink1Description: Datasheet; ComponentLink1URL: E:\NEW_DATA\ELECTRONIC_DOCUMENT\DATASHEET\1n4148.pdf; Price: 0.01; Package: TH; Stock: 27; Manufacturer: https://shopee.vn/100-%C4%90i-%E1%BB%91t-1N4007-1N4001-1N4148-1N4004-UF4007-DB3-i.101758806.1638644919; Label: 1N4148; Temperature Range: -65 to +150 degC
footprint DIO-SMD-106
footprint DIO-SMD-123
footprint DO-35 (Diode, Axial; Body 3.8 x 1.9 mm (LxDia. max), Lead Dia. 0.53 mm (max))
simulation model 1N4148 (Model Description)
pins: 1, 2

## DIODE_BB135_SOD-323
designator D?, comment BB135
Diode, Varactor, 20mA, 30V, ~2-20pF tuning range; Container: Diodes_Box; Price: 0.048; Package: SMD; Stock: 0; Label: BB135; Manufacturer: https://item.taobao.com/item.htm?spm=a230r.1.14.50.265164d1sMKVbJ&id=674274596882&ns=1&abbucket=16#detail; Temperature Range: -55 to +125 degC; ComponentLink1Description: Datasheet; ComponentLink1URL: E:\NEW_DATA\ELECTRONIC_DOCUMENT\DATASHEET\BB135.pdf
footprint DIO-SMD-123
pins: 1 A, 2 K

## DIODE_BRIDGE_KBU808_8A
designator D?, comment KBU808
SINGLE-PHASE SILICON BRIDGE RECTIFIER, 800V MAX, 560Vrms, 8A.; Container: Diodes_Box; Label: DIODE_BRIDGE; ComponentLink1Description: Datasheet; ComponentLink1URL: E:\NEW_DATA\ELECTRONIC_DOCUMENT\DATASHEET\KBU8005-hornby.pdf; Price: 0.42; Package: TH; Stock: 0; Manufacturer: https://shopee.vn/-2-CON-(F17.5)-C%E1%BA%A7u-Diode-KBU808-8A-800V-(8A-d%E1%BA%B9t)-i.29971197.1928264848?sp_atk=6ddc136f-6260-42f4-9059-366cf929f085&xptdk=6ddc136f-6260-42f4-9059-366cf929f085; Temperature Range: -55 to +125 degC
footprint DIODE_KBU
footprint DIODE_KBU_R
pins: 1, 2, 3, 4

## DIODE_BRIDGE_TYPE1
designator D?, comment BRIDGE-1A
1.0A FULL BRIDGE RECTIFIER; ComponentLink1Description: Datasheet; ComponentLink1URL: E:\NEW_DATA\ELECTRONIC_DOCUMENT\DATASHEET\1N4001 (2).pdf; Price: 0.006; Package: TH
pins: 1, 2, 3, 4

## DIODE_BRIDGE_TYPE2
designator D?, comment BRIDGE-1A
1.0A FULL BRIDGE RECTIFIER; ComponentLink1Description: Datasheet; ComponentLink1URL: E:\NEW_DATA\ELECTRONIC_DOCUMENT\DATASHEET\1N4001 (2).pdf; Price: 0.006; Package: TH
pins: 1, 2, 3, 4

## DIODE_HBR3045_15A_TO-220
designator D?, comment HBR3045
SCHOTTKY BARRIER DIODE, Vr 45V; Price: 0.17; Package: TH; Stock: 1; Manufacturer: https://item.taobao.com/item.htm?spm=a230r.1.14.14.5cb22e10SGGC5I&id=609242716116&ns=1&abbucket=16#detail; Temperature Range: -65 to +150 degC; ComponentLink1Description: Datasheet; ComponentLink1URL: E:\NEW_DATA\ELECTRONIC_DOCUMENT\DATASHEET\ds23018.pdf
simulation model DMBR3045PT (Model generated on October 12, 2003)
footprint TO220-10
part A pins: 1, 2
part B pins: 2, 3

## DIODE_HER508_5A_DO-201
designator D?, comment HER508
High current capability, Vr=1000V; Container: Diodes_Box; Label: Shockley; Price: 0.07; Package: TH; Stock: 4; Manufacturer: https://shopee.vn/G%C3%B3i-20-%C4%91i%E1%BB%91t-ch%E1%BB%89nh-l%C6%B0u-hi%E1%BB%87u-su%E1%BA%A5t-cao-HER508-5A-1000V-DIP-i.284378966.10473020151?sp_atk=452fdff3-3378-4d7d-9e70-599ffae49e51&xptdk=452fdff3-3378-4d7d-9e70-599ffae49e51; Temperature Range: -55 to +150 degC; ComponentLink1Description: Datasheet; ComponentLink1URL: E:\NEW_DATA\ELECTRONIC_DOCUMENT\DATASHEET\HER501_8.pdf
simulation model HER508 (Model generated on October 12, 2003)
footprint DIO-5A (Diode 5A, W 200mil, L 550mil)
footprint DIO-5A - LONG (Diode 5A, W 200mil, L 550mil)
footprint DIO-5AN (Diode 5A, W 200mil, L 250mil)
pins: 1, 2

## DIODE_LED_BLUE_RECTANGULAR_2X5X7MM
designator D?, comment BLUE
2X5X7MM Rectangular LED, Vf=?V; Container: Diodes_Box; Label: LED-BLUE-2X5X7; Price: 0.018; Package: TH; Stock: 0; Manufacturer: https://shopee.vn/G%C3%B3i-10-chi%E1%BA%BFc-LED-vu%C3%B4ng-2x5x7-ch%C3%A2n-ng%E1%BA%AFn-ph%E1%BB%A7-m%C3%A0u-i.85716713.7177528034?sp_atk=e6dc94a7-277d-4eeb-9483-83bf03e0dab7&xptdk=e6dc94a7-277d-4eeb-9483-83bf03e0dab7; Temperature Range: -40 to +85 degC; ComponentLink1Description: Datasheet; ComponentLink1URL: E:\NEW_DATA\ELECTRONIC_DOCUMENT\DATASHEET\OSW5DK71A1B.pdf
footprint LED_RECTANGULAR_BLUE_2X5X7MM
pins: 1, 2

## DIODE_LED_GREEN_3MM
designator D?, comment GREEN
High Efficiency LED in Ø 3 mm Clear Package, Vf=?V; Container: Diodes_Box; Label: 3MM-GREEN; Price: 0.004; Package: TH; Stock: 170; Manufacturer: https://shopee.vn/B%E1%BB%99-1000-%C4%91i-%E1%BB%91t-%C4%91%C3%A8n-led-m%C3%A0u-%C4%91%E1%BB%8F-tr%E1%BA%AFng-v%C3%A0ng-xanh-l%C3%A1-xanh-d%C6%B0%C6%A1ng-3mm-ch%E1%BA%A5t-l%C6%B0%E1%BB%A3ng-cao-i.92401456.5303184461; Temperature Range: -40 to +85 degC; ComponentLink1Description: Datasheet; ComponentLink1URL: E:\NEW_DATA\ELECTRONIC_DOCUMENT\DATASHEET\tlhg4900.pdf
footprint LED 3MM GREEN
pins: 1, 2

## DIODE_LED_GREEN_0603
designator D?, comment GREEN
SURFACE MOUNT LED GREEN, 0603 PACKAGE, Vf=2.5V; Price: 0.004; Package: SMD; Stock: 0; Manufacturer: https://shopee.vn/Set-100-%C4%90i%E1%BB%91t-%C4%90%C3%A8n-LED-0402-0603-0805-1206-1210-smd-Chuy%C3%AAn-D%E1%BB%A5ng-i.778834786.18605884532; Temperature Range: -30 to +80 degC; ComponentLink1Description: Datasheet; ComponentLink1URL: E:\NEW_DATA\ELECTRONIC_DOCUMENT\DATASHEET\Bivar-SM0603GC-datasheet.pdf
footprint LED-0603
pins: 1, 2

## DIODE_LED_GREEN_0805
designator D?, comment GREEN
SURFACE MOUNT LED GREEN, 0805 PACKAGE, Vf=2.5V; Container: Diodes_Box; Label: 0805-Green; Price: 0.004; Package: SMD; Stock: 97; Manufacturer: https://shopee.vn/Set-100-%C4%90i%E1%BB%91t-%C4%90%C3%A8n-LED-0402-0603-0805-1206-1210-smd-Chuy%C3%AAn-D%E1%BB%A5ng-i.778834786.18605884532; Temperature Range: -30 to +80 degC; ComponentLink1Description: Datasheet; ComponentLink1URL: E:\NEW_DATA\ELECTRONIC_DOCUMENT\DATASHEET\1760129.pdf
footprint LED-0805
pins: 1, 2

## DIODE_LED_GREEN_RECTANGULAR_2X5X7MM
designator D?, comment GREEN
2X5X7MM Rectangular LED, Vf=?V; Container: Diodes_Box; Label: LED-GREEN-2X5X7; Price: 0.018; Package: TH; Stock: 0; Manufacturer: https://shopee.vn/G%C3%B3i-10-chi%E1%BA%BFc-LED-vu%C3%B4ng-2x5x7-ch%C3%A2n-ng%E1%BA%AFn-ph%E1%BB%A7-m%C3%A0u-i.85716713.7177528034?sp_atk=e6dc94a7-277d-4eeb-9483-83bf03e0dab7&xptdk=e6dc94a7-277d-4eeb-9483-83bf03e0dab7; Temperature Range: -40 to +85 degC; ComponentLink1Description: Datasheet; ComponentLink1URL: E:\NEW_DATA\ELECTRONIC_DOCUMENT\DATASHEET\OSW5DK71A1B.pdf
footprint LED_RECTANGULAR_GREEN_2X5X7MM
pins: 1, 2

## DIODE_LED_ORANGE_RECTANGULAR_2X5X7MM
designator D?, comment ORANGE
2X5X7MM Rectangular LED, Vf=?V; Container: Diodes_Box; Label: LED-ORANGE-2X5X7; Price: 0.018; Package: TH; Stock: 0; Manufacturer: https://shopee.vn/G%C3%B3i-10-chi%E1%BA%BFc-LED-vu%C3%B4ng-2x5x7-ch%C3%A2n-ng%E1%BA%AFn-ph%E1%BB%A7-m%C3%A0u-i.85716713.7177528034?sp_atk=e6dc94a7-277d-4eeb-9483-83bf03e0dab7&xptdk=e6dc94a7-277d-4eeb-9483-83bf03e0dab7; Temperature Range: -40 to +85 degC; ComponentLink1Description: Datasheet; ComponentLink1URL: E:\NEW_DATA\ELECTRONIC_DOCUMENT\DATASHEET\OSW5DK71A1B.pdf
footprint LED_RECTANGULAR_ORAN_2X5X7MM
pins: 1, 2

## DIODE_LED_RED_3MM
designator D?, comment RED
3mm Round LED Lamp, Vf=?V; Container: Diodes_Box; Label: 3MM-RED; Price: 0.004; Package: TH; Stock: 150; Manufacturer: https://shopee.vn/B%E1%BB%99-1000-%C4%91i-%E1%BB%91t-%C4%91%C3%A8n-led-m%C3%A0u-%C4%91%E1%BB%8F-tr%E1%BA%AFng-v%C3%A0ng-xanh-l%C3%A1-xanh-d%C6%B0%C6%A1ng-3mm-ch%E1%BA%A5t-l%C6%B0%E1%BB%A3ng-cao-i.92401456.5303184461; Temperature Range: -40 to +85 degC; ComponentLink1Description: Datasheet; ComponentLink1URL: E:\NEW_DATA\ELECTRONIC_DOCUMENT\DATASHEET\1626756.pdf
footprint LED 3MM RED
pins: 1, 2

## DIODE_LED_RED_0603
designator D?, comment RED
LED RED CLEAR 0603 SMD, Vf=1.842V; Price: 0.003; Package: SMD; Stock: 0; Manufacturer: https://shopee.vn/Set-100-%C4%90i%E1%BB%91t-%C4%90%C3%A8n-LED-0402-0603-0805-1206-1210-smd-Chuy%C3%AAn-D%E1%BB%A5ng-i.778834786.18605884532; Temperature Range: -30 to +80 degC; ComponentLink1Description: Datasheet; ComponentLink1URL: E:\NEW_DATA\ELECTRONIC_DOCUMENT\DATASHEET\smd0603_eng_tds.pdf
footprint LED-0603
pins: 1, 2

## DIODE_LED_RED_0805
designator D?, comment RED
SURFACE MOUNT LED GREEN, 0805 PACKAGE, Vf=1.842V; Container: Diodes_Box; Label: 0805-Red; Price: 0.004; Package: SMD; Stock: 36; Manufacturer: https://shopee.vn/Set-100-%C4%90i%E1%BB%91t-%C4%90%C3%A8n-LED-0402-0603-0805-1206-1210-smd-Chuy%C3%AAn-D%E1%BB%A5ng-i.778834786.18605884532; Temperature Range: -30 to +80 degC; ComponentLink1Description: Datasheet; ComponentLink1URL: E:\NEW_DATA\ELECTRONIC_DOCUMENT\DATASHEET\1470372.pdf
footprint LED-0805
pins: 1, 2

## DIODE_LED_RED_RECTANGULAR_2X5X7MM
designator D?, comment RED
2X5X7MM Rectangular LED, Vf=?V; Container: Diodes_Box; Label: LED-RED-2X5X7; Price: 0.018; Package: TH; Stock: 0; Manufacturer: https://shopee.vn/G%C3%B3i-10-chi%E1%BA%BFc-LED-vu%C3%B4ng-2x5x7-ch%C3%A2n-ng%E1%BA%AFn-ph%E1%BB%A7-m%C3%A0u-i.85716713.7177528034?sp_atk=e6dc94a7-277d-4eeb-9483-83bf03e0dab7&xptdk=e6dc94a7-277d-4eeb-9483-83bf03e0dab7; Temperature Range: -40 to +85 degC; ComponentLink1Description: Datasheet; ComponentLink1URL: E:\NEW_DATA\ELECTRONIC_DOCUMENT\DATASHEET\OSW5DK71A1B.pdf
footprint LED_RECTANGULAR_RED_2X5X7MM
pins: 1, 2

## DIODE_LED_RGB_0404
designator D?, comment RGB  (value not drawn)
RGB Led 1 x 1 mm Diffused; Package: SMD; Stock: 0
footprint LED_0404_RGB (Chip; Body 1 x 1 mm (LxW typ) CREE)
pins: A, BK, GK, RK

## DIODE_LED_RGB_0606
designator D?, comment RGB  (value not drawn)
RGB Led 1.6 x 1.6 mm Diffused; Package: SMD; Stock: 0
footprint LED_0606_RGB_WURTH (Chip; Body 1.6 x 1.6 mm (LxW typ) WURTH)
footprint LED_0606_RGB_WURTH - Reverse Mount (Chip; Body 1.6 x 1.6 mm (LxW typ) WURTH)
pins: A, BK, GK, RK

## DIODE_LED_WHITE_RECTANGULAR_2X5X7MM
designator D?, comment WHITE
2X5X7MM Rectangular LED, Vf=?V; Container: Diodes_Box; Label: LED-WHITE-2X5X7; Price: 0.018; Package: TH; Stock: 0; Manufacturer: https://shopee.vn/G%C3%B3i-10-chi%E1%BA%BFc-LED-vu%C3%B4ng-2x5x7-ch%C3%A2n-ng%E1%BA%AFn-ph%E1%BB%A7-m%C3%A0u-i.85716713.7177528034?sp_atk=e6dc94a7-277d-4eeb-9483-83bf03e0dab7&xptdk=e6dc94a7-277d-4eeb-9483-83bf03e0dab7; Temperature Range: -40 to +85 degC; ComponentLink1Description: Datasheet; ComponentLink1URL: E:\NEW_DATA\ELECTRONIC_DOCUMENT\DATASHEET\OSW5DK71A1B.pdf
footprint LED_RECTANGULAR_WHITE_2X5X7MM
pins: 1, 2

## DIODE_LED_YELLOW_3MM
designator D?, comment YELLOW
LED Yellow 3mm, Vf=?V; Container: Diodes_Box; Price: 0.004; Package: TH; Stock: 0; Manufacturer: https://shopee.vn/B%E1%BB%99-1000-%C4%91i-%E1%BB%91t-%C4%91%C3%A8n-led-m%C3%A0u-%C4%91%E1%BB%8F-tr%E1%BA%AFng-v%C3%A0ng-xanh-l%C3%A1-xanh-d%C6%B0%C6%A1ng-3mm-ch%E1%BA%A5t-l%C6%B0%E1%BB%A3ng-cao-i.92401456.5303184461; Temperature Range: -40 to +85 degC; ComponentLink1Description: Datasheet; ComponentLink1URL: E:\NEW_DATA\ELECTRONIC_DOCUMENT\DATASHEET\1660979.pdf
footprint LED 3MM YELLOW
pins: 1, 2

## DIODE_LED_YELLOW_0603
designator D?, comment RED
LED RED CLEAR 0603 SMD, Vf=1.842V; Price: 0.003; Package: SMD; Stock: 0; Manufacturer: https://shopee.vn/Set-100-%C4%90i%E1%BB%91t-%C4%90%C3%A8n-LED-0402-0603-0805-1206-1210-smd-Chuy%C3%AAn-D%E1%BB%A5ng-i.778834786.18605884532; Temperature Range: -30 to +80 degC; ComponentLink1Description: Datasheet; ComponentLink1URL: E:\NEW_DATA\ELECTRONIC_DOCUMENT\DATASHEET\smd0603_eng_tds.pdf
footprint LED-0603
pins: 1, 2

## DIODE_LED_YELLOW_0805
designator D?, comment RED
SURFACE MOUNT LED AMBER, 0805 PACKAGE, Vf=1.85V; Container: Diodes_Box; Label: 0805-Red; Price: 0.004; Package: SMD; Manufacturer: https://shopee.vn/Set-100-%C4%90i%E1%BB%91t-%C4%90%C3%A8n-LED-0402-0603-0805-1206-1210-smd-Chuy%C3%AAn-D%E1%BB%A5ng-i.778834786.18605884532; Temperature Range: -30 to +80 degC; ComponentLink1Description: Datasheet; ComponentLink1URL: E:\NEW_DATA\ELECTRONIC_DOCUMENT\DATASHEET\1581589.pdf
footprint LED-0805
pins: 1, 2

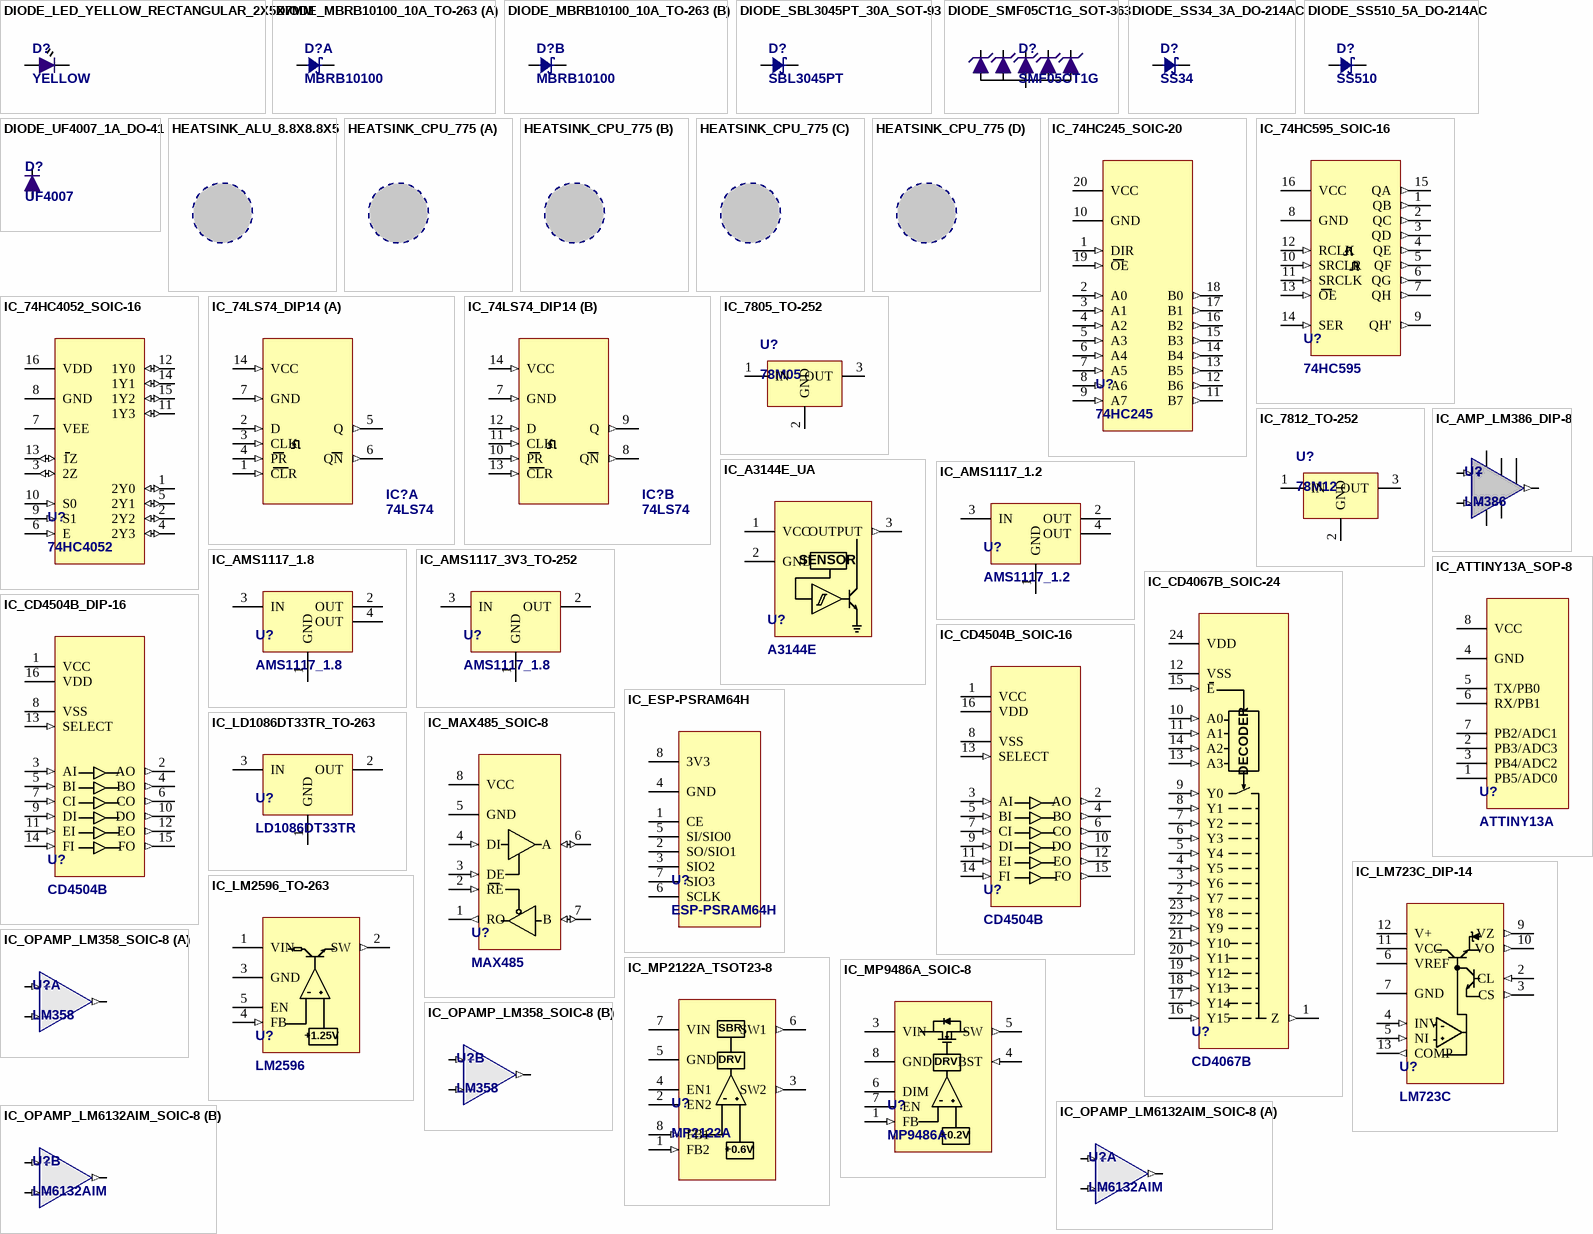
[diagram p4: symbols DIODE_LED_YELLOW_RECTANGULAR_2X5X7MM to IC_OPAMP_LM6132AIM_SOIC-8]

## DIODE_LED_YELLOW_RECTANGULAR_2X5X7MM
designator D?, comment YELLOW
2X5X7MM Rectangular LED, Vf=?V; Container: Diodes_Box; Label: LED-YELLOW-2X5X7; Price: 0.018; Package: TH; Stock: 0; Manufacturer: https://shopee.vn/G%C3%B3i-10-chi%E1%BA%BFc-LED-vu%C3%B4ng-2x5x7-ch%C3%A2n-ng%E1%BA%AFn-ph%E1%BB%A7-m%C3%A0u-i.85716713.7177528034?sp_atk=e6dc94a7-277d-4eeb-9483-83bf03e0dab7&xptdk=e6dc94a7-277d-4eeb-9483-83bf03e0dab7; Temperature Range: -40 to +85 degC; ComponentLink1Description: Datasheet; ComponentLink1URL: E:\NEW_DATA\ELECTRONIC_DOCUMENT\DATASHEET\OSW5DK71A1B.pdf
footprint LED_RECTANGULAR_YELLOW_2X5X7MM
pins: 1, 2

## DIODE_MBRB10100_10A_TO-263
designator D?, comment MBRB10100
10A SCHOTTKY BARRIER RECTIFIER, Vr 100V; Container: Diodes_Box; Price: 0.085; Package: SMD; Stock: 10; Label: MBRB10100; Manufacturer: https://item.taobao.com/item.htm?spm=a1z10.5-c-s.w4002-21047669674.25.122446e1dwRhzv&id=592822025301; Temperature Range: -55 to +175 degC; ComponentLink1Description: Datasheet; ComponentLink1URL: E:\NEW_DATA\ELECTRONIC_DOCUMENT\DATASHEET\ds23018.pdf
simulation model DMBR3045PT (Model generated on October 12, 2003)
footprint TO263-D2PAK
part A pins: 1, 2
part B pins: 2, 3

## DIODE_SBL3045PT_30A_SOT-93
designator D?, comment SBL3045PT
30A SCHOTTKY BARRIER RECTIFIER, Vr 45V; Price: 0.85; Package: TH; Stock: 2; Manufacturer: https://shopee.vn/%C4%90iot-MBR3045-i.20802805.1423398435; Temperature Range: -65 to +150 degC; ComponentLink1Description: Datasheet; ComponentLink1URL: E:\NEW_DATA\ELECTRONIC_DOCUMENT\DATASHEET\ds23018.pdf
simulation model DMBR3045PT (Model generated on October 12, 2003)
footprint TO247-h26
footprint TO247-h22~5.08
footprint TO247D
footprint TO247-RA-800a
pins: 1, 2

## DIODE_SMF05CT1G_SOT-363
designator D?, comment SMF05CT1G
TVS ESD Protection Diode Array, 5-Line, 5V.; Container: Diodes_Box; ComponentLink1Description: Datasheet; ComponentLink1URL: E:\NEW_DATA\ELECTRONIC_DOCUMENT\DATASHEET\1N4001 (2).pdf; Price: 0.12; Package: TH; Temperature Range: -50 to +125 degC; Stock: 0; Label: SMF05CT1G; Manufacturer: https://item.taobao.com/item.htm?spm=a1z10.3-c-s.w4002-23047171155.14.5ece5989xdS8FG&id=627003729419
footprint SOT363 (SOT363, 6-Leads, Body 2x1.3mm, Pitch 0.65mm, Lead Span 2.1mm, IPC High Density)
pins: 1 K1, 2 A, 3 K2, 4 K3, 5 K4, 6 K5

## DIODE_SS34_3A_DO-214AC
designator D?, comment SS34
Surface-Mount Schottky Barrier Rectifier, Vr=30V; Container: Diodes_Box; Label: Shockley; Price: 0.12; Package: SMD; Stock: 0; Manufacturer: https://shopee.vn/-5-CON-(KX)-Diode-D%C3%A1n-SS34-SMA-3A-40V-1N5822-(SMD-D%C3%A1n)-Diode-xung--i.29971197.1930547559?sp_atk=2e39dc6f-7249-4ff0-bc48-5163322d9dd4&xptdk=2e39dc6f-7249-4ff0-bc48-5163322d9dd4; Temperature Range: -55 to +150 degC; ComponentLink1Description: Datasheet; ComponentLink1URL: E:\NEW_DATA\ELECTRONIC_DOCUMENT\DATASHEET\ss32.pdf
simulation model SS34 (Model generated on October 12, 2003)
footprint DO-214AC
footprint DIO-SMD-106
pins: 1, 2

## DIODE_SS510_5A_DO-214AC
designator D?, comment SS510
Surface-Mount Schottky Barrier Rectifier, Vr=100V; Container: Diodes_Box; Label: Shockley; Price: 0.046; Package: SMD; Stock: 0; Manufacturer: https://item.taobao.com/item.htm?spm=a1z10.3-c-s.w4002-24706531953.23.42896a4b0TAR9w&id=545468050384; Temperature Range: -55 to +150 degC; ComponentLink1Description: Datasheet; ComponentLink1URL: E:\NEW_DATA\ELECTRONIC_DOCUMENT\DATASHEET\ss32.pdf
footprint DO-214AC
footprint DIO-SMD-106
pins: 1, 2

## DIODE_UF4007_1A_DO-41
designator D?, comment UF4007
Ultrafast Plastic Rectifier 1A - Vr 1000V; Container: Diodes_Box; ComponentLink1Description: Datasheet; ComponentLink1URL: E:\NEW_DATA\ELECTRONIC_DOCUMENT\DATASHEET\1N4001 (2).pdf; Price: 0.01; Package: TH; Temperature Range: -50 to +150 degC; Stock: 2; Label: UF4007; Manufacturer: https://shopee.vn/100-%C4%90i-%E1%BB%91t-1N4007-1N4001-1N4148-1N4004-UF4007-DB3-i.101758806.1638644919
footprint DIO-SMD-106
footprint DIO-SMD-123
footprint DIO-1AN (Diode 1A, W 100mil, L 150mil)
footprint DIO-1A-SMALL (Diode 1A, W 100mil, L 350mil)
simulation model UF4007 (Model Description)
pins: 1, 2

## HEATSINK_ALU_8.8X8.8X5
designator HS?, comment ALU_8.8X8.8X5
HEATSINK ALU 8.8X8.8X5 FROM CHINA; Price: 0.048; Package: SMD; Stock: 20; Container: HEATSINK; Label: ALU_8.8X8.8X5; Manufacturer: https://shopee.vn/Set-5-mi%E1%BA%BFng-nh%C3%B4m-t%E1%BA%A3n-nhi%E1%BB%87t-cao-c%E1%BA%A5p-c%E1%BB%A1-8.8x8.8x5mm-cho-chip-nh%E1%BB%9B-LED-i.410956428.9172920161?xptdk=409fad90-44e0-46f3-a162-0b94c27037a3; Temperature Range: -55 to +150 degC
footprint HEATSINK_ALU_8.8X8.8X5_TO252

## HEATSINK_CPU_775
designator HS?, comment HS-CPU-775
HEATSINK CPU 775; Price: 1.1; Package: TH; Stock: 0; Container: HEATSINK; Label: CPU-775; Manufacturer: https://shopee.vn/Qu%E1%BA%A1t-t%E1%BA%A3n-nhi%E1%BB%87t-CPU-socket-775-c%C5%A9-fan-zin-theo-CPU-i.117484484.2723499207?sp_atk=ca0f9246-45eb-4228-9a3b-c3dea130ba7a&xptdk=ca0f9246-45eb-4228-9a3b-c3dea130ba7a; Temperature Range: -55 to +150 degC
footprint HEATSINK_LGA1155

## IC_74HC245_SOIC-20
designator U?, comment 74HC245
SNx4HC245 Octal Bus Transceivers With 3-State Outputs. Icc = 80uA; Container: DIGITAL_IC; Price: 0.227; Package: SMD; Stock: 0; Label: 74HC245; Manufacturer: https://item.taobao.com/item.htm?spm=a1z10.3-c-s.w4002-24706531953.18.61606a4bcjebto&id=581081768207; Temperature Range: -40 to +125 degC; ComponentLink1Description: Datasheet; ComponentLink1URL: E:\NEW_DATA\ELECTRONIC_DOCUMENT\DATASHEET\sn74hc245.pdf
footprint SOIC-20S (SOIC, 16-Leads, Body 9.90x3.91mm, Pitch 1.27mm, IPC Medium Density)
pins: 1 DIR (in), 2 A0 (in), 3 A1 (in), 4 A2 (in), 5 A3 (in), 6 A4 (in), 7 A5 (in), 8 A6 (in), 9 A7 (in), 10 GND (power), 11 B7 (out), 12 B6 (out), 13 B5 (out), 14 B4 (out), 15 B3 (out), 16 B2 (out), 17 B1 (out), 18 B0 (out), 19 OE (in), 20 VCC (power)

## IC_74HC595_SOIC-16
designator U?, comment 74HC595
CD74HC595 8-Bit Shift Registers With 3-State Output Registers.; Container: DIGITAL_IC; Price: 0.048; Package: SMD; Stock: 0; Label: 74HC595; Manufacturer: https://shopee.vn/B%E1%BB%99-10-Chip-Logic-SN74HC595D-SOP16-74HC595D-SOP-16-74HC595-SOP-i.778834786.15286403058; Temperature Range: -40 to +125 degC; ComponentLink1Description: Datasheet; ComponentLink1URL: E:\NEW_DATA\ELECTRONIC_DOCUMENT\DATASHEET\toshiba_74HC595D(X34TTD-410-02)_E_20160209-1209527.pdf
footprint SOIC-16S (SOIC, 16-Leads, Body 9.90x3.91mm, Pitch 1.27mm, IPC Medium Density)
pins: 1 QB (out), 2 QC (out), 3 QD (out), 4 QE (out), 5 QF (out), 6 QG (out), 7 QH (out), 8 GND (power), 9 QH' (out), 10 SRCLR (in), 11 SRCLK (in), 12 RCLK (in), 13 OE (in), 14 SER (in), 15 QA (out), 16 VCC (power)

## IC_74HC4052_SOIC-16
designator U?, comment 74HC4052
Dual 4-channel analog multiplexer/demultiplexer; Container: DIGITAL_IC; Price: 0.062; Package: SMD; Stock: 0; Label: 74HC4052; Manufacturer: https://item.taobao.com/item.htm?spm=a1z10.3-c-s.w4002-23047171155.10.62d35989k4Pxh7&id=588746784920; Temperature Range: -40 to +125 degC; ComponentLink1Description: Datasheet; ComponentLink1URL: E:\NEW_DATA\ELECTRONIC_DOCUMENT\DATASHEET\74HC_HCT4052.pdf
footprint SOIC-16S (SOIC, 16-Leads, Body 9.90x3.91mm, Pitch 1.27mm, IPC Medium Density)
pins: 1 2Y0 (io), 2 2Y2 (io), 3 2Z (io), 4 2Y3 (io), 5 2Y1 (io), 6 E (in), 7 VEE (power), 8 GND (power), 9 S1 (in), 10 S0 (in), 11 1Y3 (io), 12 1Y0 (io), 13 1Z (io), 14 1Y1 (io), 15 1Y2 (io), 16 VDD (power)

## IC_74LS74_DIP14
designator IC?, comment 74LS74
Dual D-Type Positive-Edge-Triggered Flip-Flops With Preset And Clear.; Container: DIGITAL_IC; Price: 0.13; Package: TH; Stock: 0; Label: 74LS74; Manufacturer: https://shopee.vn/B%E1%BB%99-10-Linh-Ki%E1%BB%87n-%C4%90i%E1%BB%87n-T%E1%BB%AD-HD74LS74AP-DIP14-HD74LS74-DIP-SN74LS74AN-DIP-14-74LS74-SN74LS74N-HD74LS74P-i.514161463.20000638984?sp_atk=b46ef0c4-96da-4564-a1d0-0d87feea6051&xptdk=b46ef0c4-96da-4564-a1d0-0d87feea6051; Temperature Range: 0 to 70 degC; ComponentLink1Description: Datasheet; ComponentLink1URL: E:\NEW_DATA\ELECTRONIC_DOCUMENT\DATASHEET\sn74ls74a.pdf
footprint DIP14_SOCKET
footprint DIP14 (DIP, 14-Leads, Row Spacing 7.62mm, Pitch 2.54mm, Body 19.2x6.6mm)
part A pins: 1 CLR (in), 2 D (in), 3 CLK (in), 4 PR (in), 5 Q (out), 6 QN (out), 7 GND (in), 14 VCC (in)
part B pins: 7 GND (in), 8 QN (out), 9 Q (out), 10 PR (in), 11 CLK (in), 12 D (in), 13 CLR (in), 14 VCC (in)

## IC_7805_TO-252
designator U?, comment 78M05
µA7800 SERIES POSITIVE-VOLTAGE REGULATORS, Imax=1.5A; Container: COMMON_IC; Price: 0.065; Package: SMD; Stock: 8; Label: REGULATOR; Manufacturer: https://shopee.vn/Set-10-linh-ki%E1%BB%87n-%C4%91i%E1%BB%87n-t%E1%BB%AD-78M05-TO252-7805-L78M05CDT-78M06-78M08-78M09-78M12-78M15-7806-7808G-i.395117932.9460732059; Temperature Range: -65 to +150 degC; ComponentLink1Description: Datasheet; ComponentLink1URL: E:\NEW_DATA\ELECTRONIC_DOCUMENT\DATASHEET\LM7805.pdf
footprint TO252AA
footprint TO252
simulation model 7805 (Model Description)
pins: 1 IN (power), 2 GND, 3 OUT (power)

## IC_7812_TO-252
designator U?, comment 78M12
µA7800 SERIES POSITIVE-VOLTAGE REGULATORS, Imax=1.5A; Container: COMMON_IC; Price: 0.1; Package: SMD; Stock: 0; Label: REGULATOR; Manufacturer: https://shopee.vn/Set-10-linh-ki%E1%BB%87n-%C4%91i%E1%BB%87n-t%E1%BB%AD-78M05-TO252-7805-L78M05CDT-78M06-78M08-78M09-78M12-78M15-7806-7808G-i.395117932.9460732059; Temperature Range: -65 to +150 degC; ComponentLink1Description: Datasheet; ComponentLink1URL: E:\NEW_DATA\ELECTRONIC_DOCUMENT\DATASHEET\LM7805.pdf
footprint TO252AA
footprint TO252
simulation model 7812 (Model Description)
pins: 1 IN (power), 2 GND, 3 OUT (power)

## IC_A3144E_UA
designator U?, comment A3144E
Sensitive Hall Effect Switches for High-Temperature Operation. (E44); Container: COMMON_IC; ComponentLink1Description: Datasheet; ComponentLink1URL: E:\NEW_DATA\ELECTRONIC_DOCUMENT\DATASHEET\A3141-2-3-4-Datasheet.pdf; Package: TH; Stock: 0; Label: HALL; Manufacturer: https://shopee.vn/B%E1%BB%99-10-c%E1%BA%A3m-bi%E1%BA%BFn-Hall-OH3144-AH3144E-A3144E-TO92-A3144-TO-92-3144-3144E-chuy%C3%AAn-d%E1%BB%A5ng-i.409883163.3046788293?sp_atk=9c027249-9f58-4e35-91db-45379a03a4d3&xptdk=9c027249-9f58-4e35-91db-45379a03a4d3; Temperature Range: -40 to +85 degC; Price: 0.08
footprint TO92-Hor1 top 1.27; pin to pad 1>3 3>1
footprint TO92C; pin to pad 1>3 3>1
footprint TO92-Hor1 butom 1.27; pin to pad 1>3 3>1
footprint TO92-Hor 2top 1.27; pin to pad 1>3 3>1
pins: 1 VCC (power), 2 GND (power), 3 OUTPUT (out)
text: SENSOR

## IC_AMP_LM386_DIP-8
designator U?, comment LM386
LM386 Low Voltage Audio Power Amplifier; Container: ANALOG_IC_BOX; Label: AMP; Price: 0.174; Package: DIP; Stock: 14; Manufacturer: https://shopee.vn/Set-10-Chip-%C4%90i%E1%BB%87n-T%E1%BB%AD-LM224-LM258-NE555-LM2902-LM2903-LM2904-LM311-LM324-LM339-LM358-LM386-LM393-SOP-LM324DR-LM358DR-Chuy%C3%AAn-D%E1%BB%A5ng-i.778834786.16770700042; Temperature Range: 0 to +70 degC; ComponentLink1Description: Datasheet; ComponentLink1URL: E:\NEW_DATA\ELECTRONIC_DOCUMENT\DATASHEET\lm386.pdf
footprint DIP8 (DIP, 8-Leads, Row Spacing 7.62mm, Pitch 2.54mm, Body 9.91x6.73mm)
footprint DIP8-SOCKET (DIP, 8-Leads, Row Spacing 7.62mm, Pitch 2.54mm, Body 9.91x6.73mm)
pins: 1 GAIN (power), 1 OUT (out), 2 -IN (in), 3 +IN (in), 4 V- (power), 6 V+ (power), 7 V- (power), 8 GAIN (power)

## IC_AMS1117_1.2
designator U?, comment AMS1117_1.2
1A LOW DROPOUT VOLTAGE REGULATOR, Vmax 15; Container: COMMON_IC; ComponentLink1Description: Datasheet; ComponentLink1URL: E:\NEW_DATA\ELECTRONIC_DOCUMENT\DATASHEET\ds1117.pdf; Price: 0.027; Package: SMD; Stock: 4; Label: AMS1117; Manufacturer: https://shopee.vn/Set-70-B%E1%BB%99-%C4%90i%E1%BB%81u-Ch%E1%BB%89nh-%C4%90i%E1%BB%87n-%C3%81p-AMS1117-1.2V-1.5V-1.8V-2.5V-3.3V-5.0V-ADJ-AMS1117-3.3V-AMS1117-3.3-AMS1117-5.0-7-Gi%C3%A1-Tr%E1%BB%8B-M%E1%BB%97i-Lo%E1%BA%A1i-i.778834786.19805430939?sp_atk=74066310-54b3-4280-a069-18140e90727b&xptdk=74066310-54b3-4280-a069-18140e90727b; Temperature Range: -40 to +125 degC
footprint SOT223(1234)
simulation model NCP1117_ADJ1-X ($)
pins: 1 GND, 2 OUT (power), 3 IN (power), 4 OUT